# Altium footprint library 2_Pin_Phoenix.PcbLib: 1 footprints
Each footprint in its own frame and in the unit in brackets; x right, y up, seen from the top. Pads: shape width x height; smd on the part's side, far side on the other; paste and mask are expansions set on the pad; w line width, h text height; cw(c..) or ccw(c..) is an arc to the next point about the centre after c.
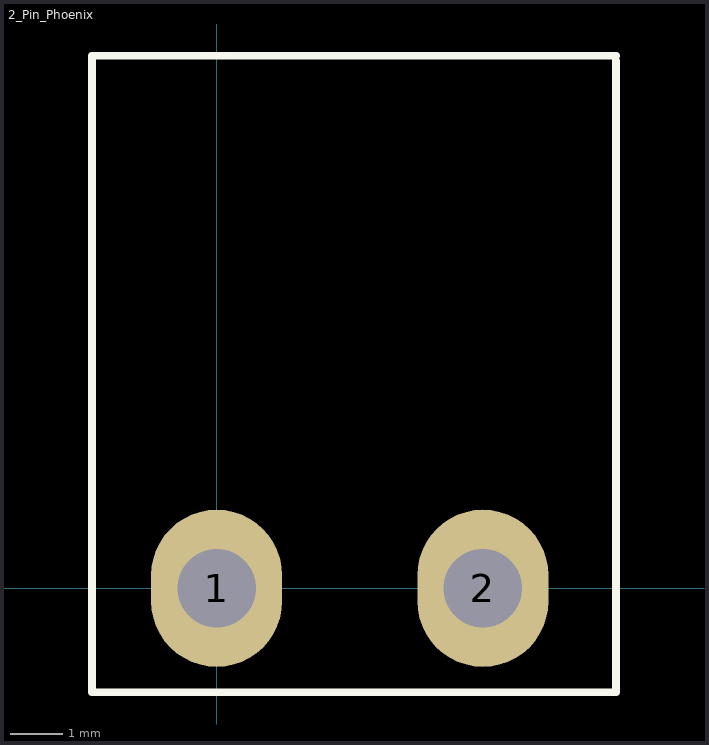
[diagram p0: the footprint, top view; thin cyan lines are the x and y axes]

## 2_Pin_Phoenix [mm] "2_Pin_Phoenix"
pads (2):
  oval 2.5x3 hole 1.5: 1(0,0) 2(5.08,0)
Top Overlay:
  lines w0.15: 7.62,10.066 7.62,-1.983 -2.38,-1.983 -2.38,10.16 7.62,10.16
3D body: height 8.6, standoff -3.5, extent -2.476,-2.064 7.683,9.938